# Altium schematic symbol library NetTroll.SchLib: 58 symbols
Pins are listed as number, name and electrical type; pins without a type are passive.

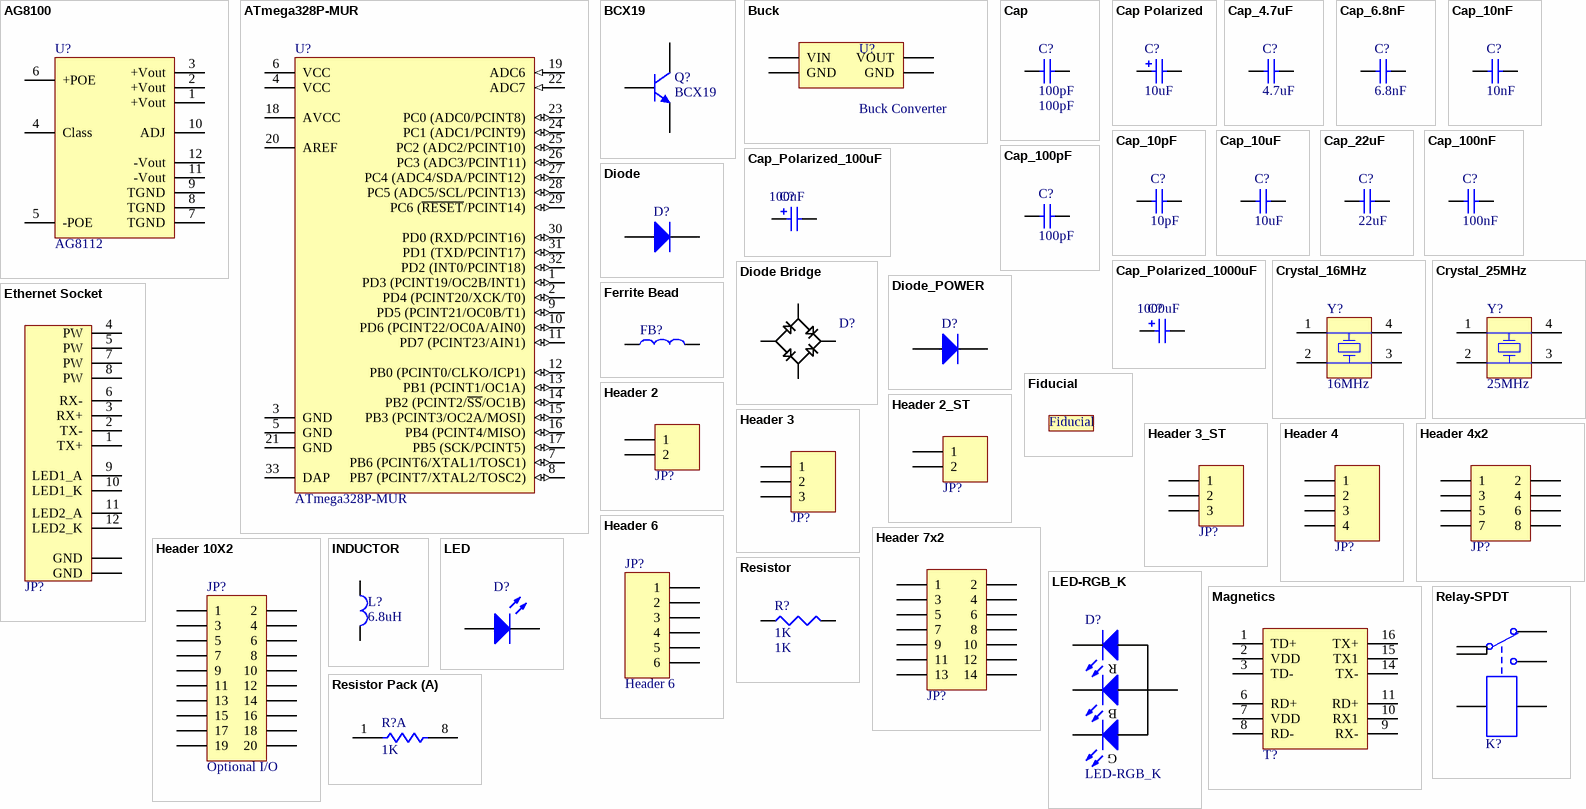
[diagram p0: symbols AG8100 to Resistor Pack]

## AG8100
designator U?, comment AG8112
POE Controller and Buck Converter; Supplier 1: Digi-Key; Supplier 2: Mouser
footprint AG8100
pins: 1 +Vout (power), 2 +Vout (power), 3 +Vout (power), 4 Class, 5 -POE (power), 6 +POE (power), 7 TGND (power) "Thermal GND", 8 TGND (power) "Thermal GND", 9 TGND (power) "Thermal GND", 10 ADJ, 11 -Vout (power), 12 -Vout (power)

## ATmega328P-MUR
designator U?
8-bit AVR Microcontroller, 32KB Flash, 1KB EEPROM, 2KB SRAM, 32-pin MLF, Industrial Grade (-40°C to 85°C); Published: 1-Apr-2010; DatasheetVersion: revA, Jan-2010; PackageVersion: revE, May-2006; PackageReference: 32M1-A; Publisher: Altium Limited; PackageDescription: 32-Pin Micro Lead Frame Package (MLF),  5 x 5 x 1.0 mm Body, Pitch 0.50 mm, 3.10mm Exposed Pad; Supplier 1: Digi-Key; Supplier Part Number 1: ATMEGA328P-MURCT-ND; Supplier 2: Mouser; Supplier Part Number 2: 556-ATMEGA328P-MU; Code_JEDEC: MO-220-VHHD-2; ComponentLink1Description: Manufacturer Link; ComponentLink1URL: http://www.atmel.com/products/avr/default.asp?; ComponentLink2Description: ATmega48A/48PA/88A/88PA/168A/168PA/328/328P Datasheet; ComponentLink2URL: http://www.atmel.com/dyn/resources/prod_documents/8271.pdf; ComponentLink3Description: ATmega48A/48PA/88A/88PA/168A/168PA/328/328P Summary; ComponentLink3URL: http://www.atmel.com/dyn/resources/prod_documents/8271S.pdf; ComponentLink4Description: Atmel.com Home; ComponentLink4URL: http://www.atmel.com
footprint 32M1-A_N (QFN, 32-Leads, Body 5x5mm, Pitch 0.5mm, IPC Medium Density)
footprint 32M1-A_L (QFN, 32-Leads, Body 5x5mm, Pitch 0.5mm, IPC High Density)
footprint 32M1-A_M (QFN, 32-Leads, Body 5x5mm, Pitch 0.5mm, IPC Low Density)
pins: 1 PD3 (PCINT19/OC2B/INT1) (io), 2 PD4 (PCINT20/XCK/T0) (io), 3 GND (power), 4 VCC (power), 5 GND (power), 6 VCC (power), 7 PB6 (PCINT6/XTAL1/TOSC1) (io), 8 PB7 (PCINT7/XTAL2/TOSC2) (io), 9 PD5 (PCINT21/OC0B/T1) (io), 10 PD6 (PCINT22/OC0A/AIN0) (io), 11 PD7 (PCINT23/AIN1) (io), 12 PB0 (PCINT0/CLKO/ICP1) (io), 13 PB1 (PCINT1/OC1A) (io), 14 PB2 (PCINT2/~{SS}/OC1B) (io), 15 PB3 (PCINT3/OC2A/MOSI) (io), 16 PB4 (PCINT4/MISO) (io), 17 PB5 (SCK/PCINT5) (io), 18 AVCC (power), 19 ADC6 (in), 20 AREF, 21 GND (power), 22 ADC7 (in), 23 PC0 (ADC0/PCINT8) (io), 24 PC1 (ADC1/PCINT9) (io), 25 PC2 (ADC2/PCINT10) (io), 26 PC3 (ADC3/PCINT11) (io), 27 PC4 (ADC4/SDA/PCINT12) (io), 28 PC5 (ADC5/SCL/PCINT13) (io), 29 PC6 (~{RESET}/PCINT14) (io), 30 PD0 (RXD/PCINT16) (io), 31 PD1 (TXD/PCINT17) (io), 32 PD2 (INT0/PCINT18) (io), 33 DAP (power)

## BCX19
designator Q?
NPN General Purpose; Published: 8-Jun-2000; LatestRevisionDate: 15-Jan-2003; LatestRevisionNote: PCB Footprint 'BCY-W3/D4.7' replaced; DatasheetVersion: 1997; PackageVersion: Sep-1998; PackageReference: TO-92A; Publisher: Altium Limited; PackageDescription: TO, Flat Index; 3 In-Line, Axial Leads; Body Dia. 4.5mm; Leads 0.51 x 0.48 mm (max); ComponentLink1Description: Manufacturer Link; ComponentLink1URL: http://www.fairchildsemi.com/; ComponentLink2Description: Datasheet; ComponentLink2URL: http://www.fairchildsemi.com/ds/2N%2F2N3904.pdf; Supplier 1: Digi-Key; Supplier 2: Mouser; Supplier Part Number 1: BCX19LT1GOSCT-ND; Supplier Part Number 2: 512-BCX19
simulation model 2N3904 (NPN)
signal-integrity model 2N3904
footprint SOT23-3
pins: 1 E, 2 B, 3 C

## Buck
designator U?, comment Buck Converter
Adjustable Buck Converter Module; LatestRevisionDate: 17-Jul-2002; LatestRevisionNote: Re-released for DXP Platform.; Publisher: Altium Limited
signal-integrity model Connector
footprint Buck_Module
pins: 1 VIN, 2 VOUT, 3 GND, 4 GND

## Cap
designator C?, comment 100pF
Capacitor (Semiconductor SIM Model); Published: 8-Jun-2000; LatestRevisionDate: 29-May-2009; LatestRevisionNote: IPC-7351 Footprint Added.; PackageReference: C1206; Publisher: Altium Limited; PackageDescription: Chip Capacitor; Supplier 1: Digi-Key; Supplier 2: Mouser; Value: 100pF
simulation model CAP (Semiconductor Capacitor)
footprint 1210 (Chip Resistor; Body 3.2 x 1.6 mm (LxW typ))
footprint 0402 (Chip Resistor; Body 1.1 x 0.5 mm (LxW typ))
footprint 0603
footprint 604
pins: 1, 2

## Cap Polarized
designator C?, comment 10uF
Polarized Capacitor (Surface Mount); Published: 8-Jun-2000; LatestRevisionDate: 29-May-2009; LatestRevisionNote: IPC-7351 Footprint Added.; PackageReference: C0805; Publisher: Altium Limited; PackageDescription: Chip Capacitor; Supplier 1: Digi-Key; Supplier 2: Mouser; Value: 10uF
simulation model CAP (Capacitor)
signal-integrity model Cap Pol
footprint PANASONIC_C
footprint PANASONIC_E
footprint PANASONIC_H13
pins: +, -
1 alternate drawing of the same symbol

## Cap_4.7uF
designator C?, comment 4.7uF
Capacitor (Semiconductor SIM Model); Published: 8-Jun-2000; LatestRevisionDate: 29-May-2009; LatestRevisionNote: IPC-7351 Footprint Added.; PackageReference: C1206; Publisher: Altium Limited; PackageDescription: Chip Capacitor; Supplier 1: Digi-Key; Supplier 2: Mouser; Supplier Part Number 1: 1276-2087-1-ND; Supplier Part Number 2: 80-C0603C475M8P; Value: 4.7uF
simulation model CAP (Semiconductor Capacitor)
footprint 1210 (Chip Resistor; Body 3.2 x 1.6 mm (LxW typ))
footprint 0402 (Chip Resistor; Body 1.1 x 0.5 mm (LxW typ))
footprint 0603
footprint 604
pins: 1, 2

## Cap_6.8nF
designator C?, comment 6.8nF
Capacitor (Semiconductor SIM Model); Published: 8-Jun-2000; LatestRevisionDate: 29-May-2009; LatestRevisionNote: IPC-7351 Footprint Added.; PackageReference: C1206; Publisher: Altium Limited; PackageDescription: Chip Capacitor; Supplier 1: Digi-Key; Supplier 2: Mouser; Supplier Part Number 1: 1276-2103-1-ND; Supplier Part Number 2: 77-VJ0603Y682MXQPBC; Value: 6.8nF
simulation model CAP (Semiconductor Capacitor)
footprint 1210 (Chip Resistor; Body 3.2 x 1.6 mm (LxW typ))
footprint 0402 (Chip Resistor; Body 1.1 x 0.5 mm (LxW typ))
footprint 0603
footprint 604
pins: 1, 2

## Cap_10nF
designator C?, comment 10nF
Capacitor (Semiconductor SIM Model); Published: 8-Jun-2000; LatestRevisionDate: 29-May-2009; LatestRevisionNote: IPC-7351 Footprint Added.; PackageReference: C1206; Publisher: Altium Limited; PackageDescription: Chip Capacitor; Supplier 1: Digi-Key; Supplier 2: Mouser; Supplier Part Number 1: 1276-1927-1-ND; Supplier Part Number 2: 77-VJ0603Y103KXAAC; Value: 10nF
simulation model CAP (Semiconductor Capacitor)
footprint 1210 (Chip Resistor; Body 3.2 x 1.6 mm (LxW typ))
footprint 0402 (Chip Resistor; Body 1.1 x 0.5 mm (LxW typ))
footprint 0603
footprint 604
pins: 1, 2

## Cap_10pF
designator C?, comment 10pF
Capacitor (Semiconductor SIM Model); Published: 8-Jun-2000; LatestRevisionDate: 29-May-2009; LatestRevisionNote: IPC-7351 Footprint Added.; PackageReference: C1206; Publisher: Altium Limited; PackageDescription: Chip Capacitor; Supplier 1: Digi-Key; Supplier 2: Mouser; Supplier Part Number 1: 1276-2157-1-ND; Supplier Part Number 2: 80-C0603C100K3G; Value: 10pF
simulation model CAP (Semiconductor Capacitor)
footprint 1210 (Chip Resistor; Body 3.2 x 1.6 mm (LxW typ))
footprint 0402 (Chip Resistor; Body 1.1 x 0.5 mm (LxW typ))
footprint 0603
footprint 604
pins: 1, 2

## Cap_10uF
designator C?, comment 10uF
Capacitor (Semiconductor SIM Model); Value: 10uF - 25V; Published: 8-Jun-2000; LatestRevisionDate: 29-May-2009; LatestRevisionNote: IPC-7351 Footprint Added.; PackageReference: C1206; Publisher: Altium Limited; PackageDescription: Chip Capacitor; Supplier 1: Digi-Key; Supplier 2: Mouser; Supplier Part Number 1: 445-9015-1-ND; Supplier Part Number 2: 810-C1608X5R1E106M
simulation model CAP (Semiconductor Capacitor)
footprint 1210 (Chip Resistor; Body 3.2 x 1.6 mm (LxW typ))
footprint 0402 (Chip Resistor; Body 1.1 x 0.5 mm (LxW typ))
footprint 0603
footprint 604
pins: 1, 2

## Cap_22uF
designator C?, comment 22uF
Capacitor (Semiconductor SIM Model); Published: 8-Jun-2000; LatestRevisionDate: 29-May-2009; LatestRevisionNote: IPC-7351 Footprint Added.; PackageReference: C1206; Publisher: Altium Limited; PackageDescription: Chip Capacitor; Supplier 1: Digi-Key; Supplier 2: Mouser; Supplier Part Number 1: 587-1395-1-ND; Supplier Part Number 2: 963-LMK325F226ZN-T; Value: 22uF
simulation model CAP (Semiconductor Capacitor)
footprint 1210 (Chip Resistor; Body 3.2 x 1.6 mm (LxW typ))
footprint 0402 (Chip Resistor; Body 1.1 x 0.5 mm (LxW typ))
footprint 0603
footprint 604
pins: 1, 2

## Cap_100nF
designator C?, comment 100nF
Capacitor (Semiconductor SIM Model); Published: 8-Jun-2000; LatestRevisionDate: 29-May-2009; LatestRevisionNote: IPC-7351 Footprint Added.; PackageReference: C1206; Publisher: Altium Limited; PackageDescription: Chip Capacitor; Supplier 1: Digi-Key; Supplier 2: Mouser; Supplier Part Number 1: 399-1096-1-ND; Supplier Part Number 2: 80-C0603C104K3R; Value: 100nF
simulation model CAP (Semiconductor Capacitor)
footprint 1210 (Chip Resistor; Body 3.2 x 1.6 mm (LxW typ))
footprint 0402 (Chip Resistor; Body 1.1 x 0.5 mm (LxW typ))
footprint 0603
footprint 604
pins: 1, 2

## Cap_100pF
designator C?, comment 100pF
Capacitor (Semiconductor SIM Model); Published: 8-Jun-2000; LatestRevisionDate: 29-May-2009; LatestRevisionNote: IPC-7351 Footprint Added.; PackageReference: C1206; Publisher: Altium Limited; PackageDescription: Chip Capacitor; Supplier 1: Digi-Key; Supplier 2: Mouser; Supplier Part Number 1: 1276-2163-1-ND; Supplier Part Number 2: 80-C0603C101J3G; Value: 100pF
simulation model CAP (Semiconductor Capacitor)
footprint 1210 (Chip Resistor; Body 3.2 x 1.6 mm (LxW typ))
footprint 0402 (Chip Resistor; Body 1.1 x 0.5 mm (LxW typ))
footprint 0603
footprint 604
pins: 1, 2

## Cap_Polarized_100uF
designator C?, comment 100uF
Polarized Capacitor (Surface Mount); Published: 8-Jun-2000; LatestRevisionDate: 29-May-2009; LatestRevisionNote: IPC-7351 Footprint Added.; PackageReference: C0805; Publisher: Altium Limited; PackageDescription: Chip Capacitor; Supplier 1: Digi-Key; Supplier 2: Mouser; Supplier Part Number 1: PCE4718CT-ND; Supplier Part Number 2: 667-EEE-HAJ101WAR; Value: 100uF
simulation model CAP (Capacitor)
signal-integrity model Cap Pol
footprint PANASONIC_C
footprint PANASONIC_E
footprint PANASONIC_H13
pins: +, -
1 alternate drawing of the same symbol

## Cap_Polarized_1000uF
designator C?, comment 1000uF
Polarized Capacitor (Surface Mount); Published: 8-Jun-2000; LatestRevisionDate: 29-May-2009; LatestRevisionNote: IPC-7351 Footprint Added.; PackageReference: C0805; Publisher: Altium Limited; PackageDescription: Chip Capacitor; Supplier 1: Digi-Key; Supplier 2: Mouser; Supplier Part Number 1: PCE3462CT-ND; Supplier Part Number 2: 140-VE102M1ETR1313; Value: 1000uF
simulation model CAP (Capacitor)
signal-integrity model Cap Pol
footprint PANASONIC_C
footprint PANASONIC_E
footprint PANASONIC_H13
pins: +, -
1 alternate drawing of the same symbol

## Crystal_16MHz
designator Y?, comment 16MHz
Surface Mount Quartz Crystal; Note: PCB layout complies with manufacturer's recommendation.; Published: 17-Jul-2002; DatasheetDocument: 28-Aug-2001; PackageDocument: 28-Aug-2001; PackageReference: 91SMX; Publisher: Altium Limited; ComponentLink1Description: Manufacturer Link; ComponentLink1URL: http://www.cmac.com/mt/; ComponentLink2Description: Datasheet; ComponentLink2URL: http://www.cmac.com/mt/databook/crystals/smd/90_91_smx.pdf; Supplier 1: Digi-Key; Supplier 2: Mouser; Supplier Part Number 2: 732-FA20H-16F12Z-AC3; Value: 16MHz
footprint CRYSTAL-SMD-2.5X2-ABM10
footprint XTAL-CSX750
pins: 1 OSC1, 2 OSC2, 3 OSC2, 4 OSC1

## Crystal_25MHz
designator Y?, comment 25MHz
Surface Mount Quartz Crystal; Note: PCB layout complies with manufacturer's recommendation.; Published: 17-Jul-2002; DatasheetDocument: 28-Aug-2001; PackageDocument: 28-Aug-2001; PackageReference: 91SMX; Publisher: Altium Limited; ComponentLink1Description: Manufacturer Link; ComponentLink1URL: http://www.cmac.com/mt/; ComponentLink2Description: Datasheet; ComponentLink2URL: http://www.cmac.com/mt/databook/crystals/smd/90_91_smx.pdf; Supplier 1: Digi-Key; Supplier 2: Mouser; Supplier Part Number 1: 535-9095-1-ND; Supplier Part Number 2: 815-ABM10-25-E20-T; Value: 25MHz
footprint CRYSTAL-SMD-2.5X2-ABM10
footprint XTAL-CSX750
pins: 1 OSC1, 2 OSC2, 3 OSC2, 4 OSC1

## Diode
designator D?  (value not drawn)
Default Diode; Published: 8-Jun-2000; LatestRevisionDate: 17-Jul-2002; LatestRevisionNote: Re-released for DXP Platform.; PackageVersion: Sep-1996; PackageReference: SMC; Publisher: Altium Limited; PackageDescription: DO-214-AB/SMC; 2 C-Bend Leads; Body 7.9 x 5.9 mm, inc. leads (LxW); Code_JEDEC: DO-214-AB; Supplier 1: Digi-Key; Supplier 2: Mouser; Supplier 3: Farnell; Supplier Part Number 1: MBRX120LF-TPMSCT-ND; Supplier Part Number 2: 833-MBRX120LF-TP; Supplier Part Number 3: 1924371
simulation model DIODE (Diode)
signal-integrity model Diode
footprint SOD-123; pin to pad 1>A 2>K
pins: 1 A, 2 K

## Diode Bridge
designator D?  (value not drawn)
Published: 8-Jun-2000; LatestRevisionDate: 29-May-2009; LatestRevisionNote: IPC-7351 Footprint Added.; PackageReference: J1-0603; Publisher: Altium Limited; PackageDescription: Chip Resistor; Value: -; Supplier 1: Digi-Key; Supplier 2: Mouser; Supplier Part Number 1: HD01DICT-ND; Supplier Part Number 2: 621-HD01-T
footprint MBS
pins: + (power), - (power), AC1 (power), AC2 (power)

## Diode_POWER
designator D?  (value not drawn)
Default Diode; Published: 8-Jun-2000; LatestRevisionDate: 17-Jul-2002; LatestRevisionNote: Re-released for DXP Platform.; PackageVersion: Sep-1996; PackageReference: SMC; Publisher: Altium Limited; PackageDescription: DO-214-AB/SMC; 2 C-Bend Leads; Body 7.9 x 5.9 mm, inc. leads (LxW); Code_JEDEC: DO-214-AB; Supplier 1: Digi-Key; Supplier 2: Mouser; Supplier Part Number 1: 497-6509-1-ND; Supplier Part Number 2: 511-SMAJ58CA-TR
simulation model DIODE (Diode)
signal-integrity model Diode
footprint SMBJ
pins: 1 A, 2 K

## Ethernet Socket
designator JP?, comment RJ45  (value not drawn)
Ethernet Socket RJ45 With Leds; Supplier 1: Digi-Key; Supplier 2: Mouser; Supplier Part Number 1: RJHSE-5384-ND; Supplier Part Number 2: 523-RJHSE-5484
footprint RJHSE-5484
pins: 1 TX+, 2 TX-, 3 RX+, 4 PW, 5 PW, 6 RX-, 7 PW, 8 PW, 9 LED1_A, 10 LED1_K, 11 LED2_A, 12 LED2_K, GND1 GND, GND2 GND

## Ferrite Bead
designator FB?  (value not drawn)
Value: HH-1M1608-121JT; Published: 8-Jun-2000; LatestRevisionDate: 29-May-2009; LatestRevisionNote: IPC-7351 Footprint Added.; PackageReference: J1-0603; Publisher: Altium Limited; PackageDescription: Chip Resistor; Supplier 1: Digi-Key; Supplier 2: Mouser; Supplier Part Number 1: 445-8676-1-ND; Supplier Part Number 2: 810-MMZ1608F030B
simulation model RESISTOR (Resistor)
footprint 0603
pins: 1, 2

## Fiducial
designator FD?  (value not drawn)
Fiducial
footprint FD

## Header 2
designator JP?  (value not drawn)
Header, 2-Pin; LatestRevisionDate: 17-Jul-2002; LatestRevisionNote: Re-released for DXP Platform.; Publisher: Altium Limited; Supplier 1: Digi-Key; Supplier 2: Mouser
footprint 1X02_NO_SILK
footprint SCREWTERMINAL-3.5MM-2
pins: 1, 2

## Header 2_ST
designator JP?, comment Header 2-ST  (value not drawn)
Header, 2-Pin; LatestRevisionDate: 17-Jul-2002; LatestRevisionNote: Re-released for DXP Platform.; Publisher: Altium Limited; Supplier 1: Digi-Key; Supplier 2: Mouser; Supplier Part Number 1: A98036-ND; Supplier Part Number 2: 571-1776275-2
footprint SCREWTERMINAL-3.5MM-2
pins: 1, 2

## Header 3
designator JP?  (value not drawn)
Header, 3-Pin; LatestRevisionDate: 17-Jul-2002; LatestRevisionNote: Re-released for DXP Platform.; Publisher: Altium Limited; Supplier 1: Digi-Key; Supplier 2: Mouser; Supplier Part Number 1: 952-2264-ND; Supplier Part Number 2: 538-42375-1856
footprint 1X3
pins: 1, 2, 3

## Header 3_ST
designator JP?  (value not drawn)
Header, 3-Pin; LatestRevisionDate: 17-Jul-2002; LatestRevisionNote: Re-released for DXP Platform.; Publisher: Altium Limited; Supplier 1: Digi-Key; Supplier 2: Mouser; Supplier Part Number 1: A98037-ND; Supplier Part Number 2: 571-1776275-3
footprint SCREWTERMINAL-3.5MM-3
pins: 1, 2, 3

## Header 4
designator JP?  (value not drawn)
Header, 4-Pin; Supplier 1: Digi-Key; Supplier 2: Mouser; Supplier Part Number 1: 952-2265-ND; Supplier Part Number 2: 855-M20-9730446
footprint 1X04-SMD
footprint 1X4
pins: 1, 2, 3, 4

## Header 4x2
designator JP?  (value not drawn)
Header, 8-Pin; Supplier 1: Digi-Key; Supplier 2: Mouser; Supplier Part Number 1: 952-1788-ND; Supplier Part Number 2: 855-M20-9980446
footprint 2X4
pins: 1, 2, 3, 4, 5, 6, 7, 8

## Header 6
designator JP?
Header, 6-Pin; Supplier 1: Digi-Key; Supplier 2: Mouser; Supplier Part Number 1: 952-2270-ND; Supplier Part Number 2: 538-90120-1086
footprint 1X06_SMD_STRAIGHT_ALT
footprint 1X6
pins: 1, 2, 3, 4, 5, 6

## Header 7x2
designator JP?  (value not drawn)
Header, 14-Pin; Supplier 1: Digi-Key; Supplier 2: Mouser; Supplier Part Number 1: 609-3491-ND; Supplier Part Number 2: 649-67996-414HLF
footprint 2X7
pins: 1, 2, 3, 4, 5, 6, 7, 8, 9, 10, 11, 12, 13, 14

## Header 10X2
designator JP?, comment Optional I/O
Header, 10-Pin, Dual row; LatestRevisionDate: 17-Jul-2002; LatestRevisionNote: Re-released for DXP Platform.; Publisher: Altium Limited; Supplier 1: Digi-Key; Supplier Part Number 1: ED10524-ND
signal-integrity model Connector
footprint 2X10 (Connector; Header; 10x2 Position)
pins: 1, 2, 3, 4, 5, 6, 7, 8, 9, 10, 11, 12, 13, 14, 15, 16, 17, 18, 19, 20

## INDUCTOR
designator L?, comment 6.8uH
INDUCTOR WW 6.8UH 1.1A 1812 SMD; MPN: 744045006; SPN: 732-4064-6-ND; Cost10: 1.68800; Cost100: 1.28250; Supplier: Digikey; Supplier 1: Digi-Key; Supplier 2: Mouser; Supplier Part Number 1: 490-2518-1-ND; Supplier Part Number 2: 81-LQH43CN6R8M03L
footprint 6X6INDUCTOR
footprint MSS1278 (MSS1278 Power Inductor)
footprint 1812 (Chip Capacitor; Body 4.5 x 3.2 mm (LxW typ))
pins: 1, 2

## LED
designator D?  (value not drawn)
Typical RED, GREEN, YELLOW, AMBER GaAs LED; Published: 8-Jun-2000; LatestRevisionDate: 17-Jul-2002; LatestRevisionNote: Re-released for DXP Platform.; PackageVersion: Feb-2002; PackageReference: 3.2X1.6X1.1; Publisher: Altium Limited; PackageDescription: SM LED; 2 Flat Leads; Supplier 1: Digi-Key; Supplier 2: Mouser; Supplier Part Number 1: 475-1409-1-ND; Supplier Part Number 2: 720-LGQ971-KN-1
footprint 3.2X1.6X1.1 (SMT LED; 2 Flat Leads)
simulation model LED2 (Diode)
footprint LED-0603
pins: 1 A, 2 K

## LED-RGB_K
designator D?
RED, GREEN, BLUE LED; Published: 8-Jun-2000; LatestRevisionDate: 17-Jul-2002; LatestRevisionNote: Re-released for DXP Platform.; PackageVersion: Feb-2002; PackageReference: 3.2X1.6X1.1; Publisher: Altium Limited; PackageDescription: SM LED; 2 Flat Leads; Supplier 1: Digi-Key; Supplier 2: Mouser; Supplier Part Number 1: CLVBA-FKA-CAEDH8BBB7A363CT-ND; Supplier Part Number 2: 941-VBAFKACAEDH8B7A3; Supplier Part Number 3: 941-CLV1LFKBC7673673; Supplier 3: Mouser
simulation model LED2 (Diode)
footprint RGB-CLVBAFKA
pins: 1 K-R, 2 A, 3 K-B, 4 K-G
text: R; B; G

## Magnetics
designator T?  (value not drawn)
PoE Magnetic Module; Published: 24-Mar-1999; LatestRevisionDate: 17-Jul-2002; LatestRevisionNote: Re-released for DXP Platform.; PackageReference: MODULE5B; Publisher: Altium Limited; Supplier 1: Mouser; Supplier Part Number 1: 673-H2260FNL
footprint HXXXX
pins: 1 TD+, 2 VDD, 3 TD-, 6 RD+, 7 VDD, 8 RD-, 9 RX-, 10 RX1, 11 RD+, 14 TX-, 15 TX1, 16 TX+

## Relay-SPDT
designator K?  (value not drawn)
Single-Pole Dual-Throw Relay; Published: 24-Mar-1999; LatestRevisionDate: 17-Jul-2002; LatestRevisionNote: Re-released for DXP Platform.; PackageReference: MODULE5B; Publisher: Altium Limited; Supplier 1: Digi-Key; Supplier 2: Mouser; Supplier Part Number 1: Z774-ND; Supplier Part Number 2: 653-G5V-1-DC12
footprint G5V-1
pins: 1, 2, 5, 6, 9, 10

## Resistor
designator R?, comment 1K
Resistor; Published: 8-Jun-2000; LatestRevisionDate: 29-May-2009; LatestRevisionNote: IPC-7351 Footprint Added.; PackageReference: J1-0603; Publisher: Altium Limited; PackageDescription: Chip Resistor; Supplier 1: Digi-Key; Supplier 2: Mouser; Value: 1K
simulation model RESISTOR (Resistor)
footprint 1206
footprint 0402 (Chip Resistor; Body 1.1 x 0.5 mm (LxW typ))
footprint 0603
footprint 604
pins: 1, 2

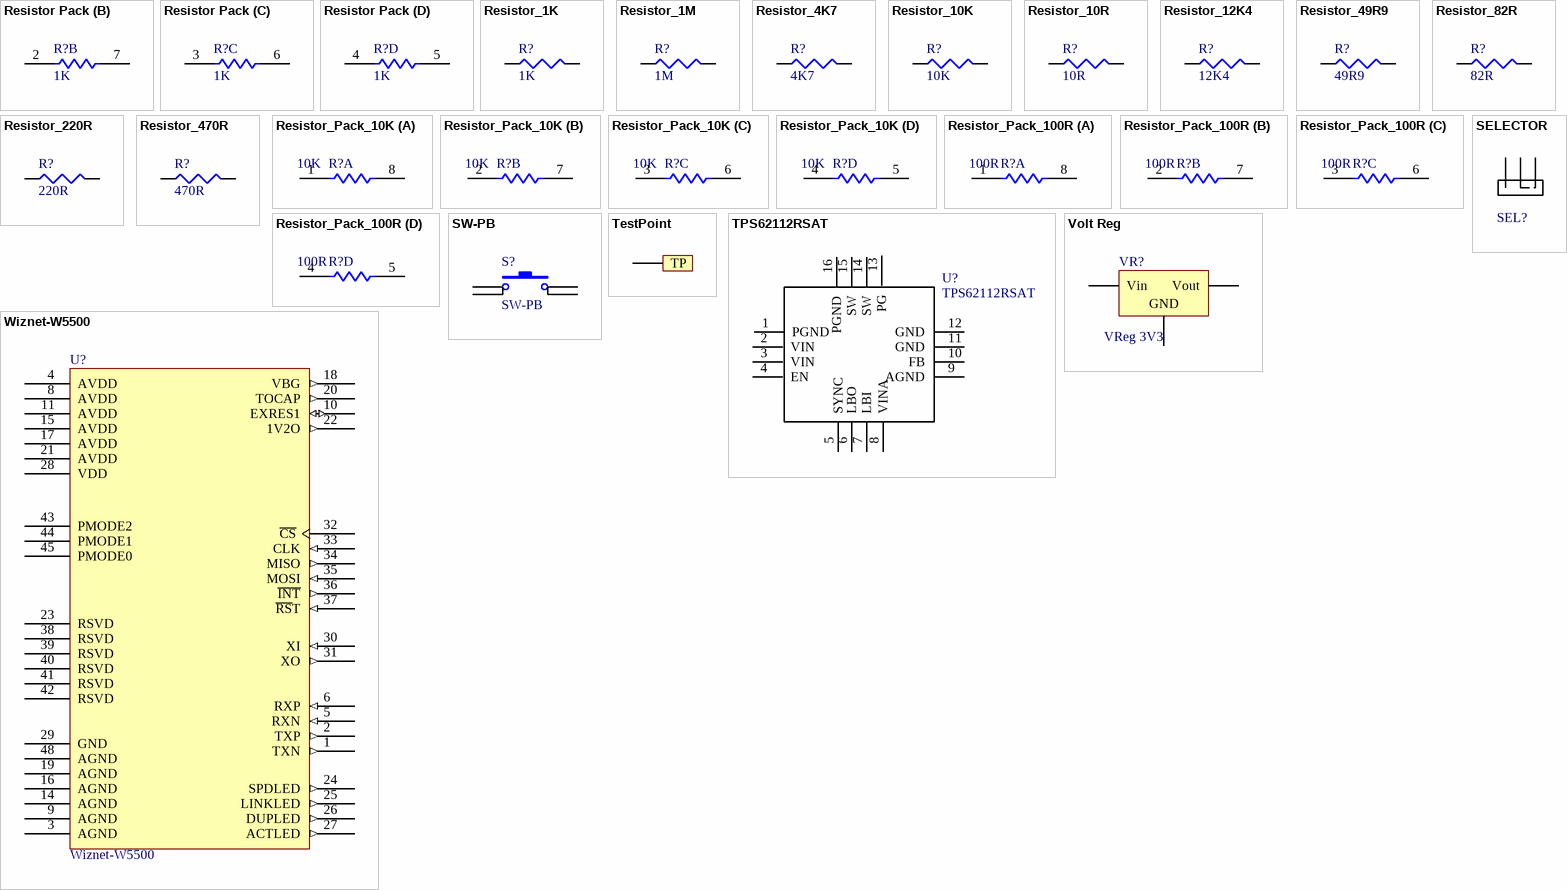
[diagram p1: symbols Resistor Pack to Wiznet-W5500]

## Resistor Pack
designator R?, comment 1K
Isolated Resistor Network - Parts; Sim Note: Enter the Resistance value into parameter field.; Published: 24-Mar-1999; LatestRevisionDate: 29-May-2009; LatestRevisionNote: IPC-7351 Footprint Added.; PackageReference: SOIC16; Publisher: Altium Limited; PackageDescription: 16-Pin Small Outline Integrated Circuit 1.27 mm Pitch; Code_JEDEC: MS-012-AC; Code_IPC: SOIC127P600-16; Supplier 1: Digi-Key; Supplier 2: Mouser; Value: 1K
simulation model RESISTOR (Resistor)
signal-integrity model Res Pack
footprint SO8_M (SOIC, 8-Leads, Body 4.9x3.9mm, Pitch 1.27mm, IPC Low Density)
footprint SO8_S (SOIC, 8-Leads, Body 4.9x3.9mm, Pitch 1.27mm, IPC Low Density)
part A pins: 1, 8
part B pins: 2, 7
part C pins: 3, 6
part D pins: 4, 5

## Resistor_1K
designator R?, comment 1K
Resistor; Published: 8-Jun-2000; LatestRevisionDate: 29-May-2009; LatestRevisionNote: IPC-7351 Footprint Added.; PackageReference: J1-0603; Publisher: Altium Limited; PackageDescription: Chip Resistor; Supplier 1: Digi-Key; Supplier 2: Mouser; Value: 1K
simulation model RESISTOR (Resistor)
footprint 1206
footprint 0402 (Chip Resistor; Body 1.1 x 0.5 mm (LxW typ))
footprint 0603
footprint 604
pins: 1, 2

## Resistor_1M
designator R?, comment 1M
Resistor; Published: 8-Jun-2000; LatestRevisionDate: 29-May-2009; LatestRevisionNote: IPC-7351 Footprint Added.; PackageReference: J1-0603; Publisher: Altium Limited; PackageDescription: Chip Resistor; Supplier 1: Digi-Key; Supplier 2: Mouser; Supplier Part Number 1: 311-1MLMCT-ND; Supplier Part Number 2: 603-AF0603FR-071ML; Value: 1M
simulation model RESISTOR (Resistor)
footprint 1206
footprint 0402 (Chip Resistor; Body 1.1 x 0.5 mm (LxW typ))
footprint 0603
footprint 604
pins: 1, 2

## Resistor_4K7
designator R?, comment 4K7
Resistor; Published: 8-Jun-2000; LatestRevisionDate: 29-May-2009; LatestRevisionNote: IPC-7351 Footprint Added.; PackageReference: J1-0603; Publisher: Altium Limited; PackageDescription: Chip Resistor; Supplier 1: Digi-Key; Supplier 2: Mouser; Supplier Part Number 1: 311-4.7KGRCT-ND; Supplier Part Number 2: 660-RK73H1JTTD4701F; Value: 4K7
simulation model RESISTOR (Resistor)
footprint 1206
footprint 0402 (Chip Resistor; Body 1.1 x 0.5 mm (LxW typ))
footprint 0603
footprint 604
pins: 1, 2

## Resistor_10K
designator R?, comment 10K
Resistor; Published: 8-Jun-2000; LatestRevisionDate: 29-May-2009; LatestRevisionNote: IPC-7351 Footprint Added.; PackageReference: J1-0603; Publisher: Altium Limited; PackageDescription: Chip Resistor; Supplier 1: Digi-Key; Supplier 2: Mouser; Supplier Part Number 1: 311-10KGRCT-ND; Supplier Part Number 2: 603-AF0603FR-0710KL; Value: 10K
simulation model RESISTOR (Resistor)
footprint 1206
footprint 0402 (Chip Resistor; Body 1.1 x 0.5 mm (LxW typ))
footprint 0603
footprint 604
pins: 1, 2

## Resistor_10R
designator R?, comment 10R
Resistor; Published: 8-Jun-2000; LatestRevisionDate: 29-May-2009; LatestRevisionNote: IPC-7351 Footprint Added.; PackageReference: J1-0603; Publisher: Altium Limited; PackageDescription: Chip Resistor; Supplier 1: Digi-Key; Supplier 2: Mouser; Supplier Part Number 1: 1276-5014-1-ND; Supplier Part Number 2: 71-CRCW0603-10-E3; Value: 10R
simulation model RESISTOR (Resistor)
footprint 1206
footprint 0402 (Chip Resistor; Body 1.1 x 0.5 mm (LxW typ))
footprint 0603
footprint 604
pins: 1, 2

## Resistor_12K4
designator R?, comment 12K4
Resistor; Published: 8-Jun-2000; LatestRevisionDate: 29-May-2009; LatestRevisionNote: IPC-7351 Footprint Added.; PackageReference: J1-0603; Publisher: Altium Limited; PackageDescription: Chip Resistor; Supplier 1: Digi-Key; Supplier 2: Mouser; Supplier Part Number 1: 1276-4752-1-ND; Supplier Part Number 2: 71-CRCW0603-12.4K-E3; Value: 12K4
simulation model RESISTOR (Resistor)
footprint 1206
footprint 0402 (Chip Resistor; Body 1.1 x 0.5 mm (LxW typ))
footprint 0603
footprint 604
pins: 1, 2

## Resistor_49R9
designator R?, comment 49R9
Resistor; Published: 8-Jun-2000; LatestRevisionDate: 29-May-2009; LatestRevisionNote: IPC-7351 Footprint Added.; PackageReference: J1-0603; Publisher: Altium Limited; PackageDescription: Chip Resistor; Supplier 1: Digi-Key; Supplier 2: Mouser; Supplier Part Number 1: RHM49.9CFCT-ND; Supplier Part Number 2: 660-RK73H1JTTD49R9F; Value: 49R9
simulation model RESISTOR (Resistor)
footprint 1206
footprint 0402 (Chip Resistor; Body 1.1 x 0.5 mm (LxW typ))
footprint 0603
footprint 604
pins: 1, 2

## Resistor_82R
designator R?, comment 82R
Resistor; Published: 8-Jun-2000; LatestRevisionDate: 29-May-2009; LatestRevisionNote: IPC-7351 Footprint Added.; PackageReference: J1-0603; Publisher: Altium Limited; PackageDescription: Chip Resistor; Supplier 1: Digi-Key; Supplier 2: Mouser; Supplier Part Number 1: 311-82GRCT-ND; Supplier Part Number 2: 660-RK73H1JTTD82R0F; Value: 82R
simulation model RESISTOR (Resistor)
footprint 1206
footprint 0402 (Chip Resistor; Body 1.1 x 0.5 mm (LxW typ))
footprint 0603
footprint 604
pins: 1, 2

## Resistor_220R
designator R?, comment 220R
Resistor; Published: 8-Jun-2000; LatestRevisionDate: 29-May-2009; LatestRevisionNote: IPC-7351 Footprint Added.; PackageReference: J1-0603; Publisher: Altium Limited; PackageDescription: Chip Resistor; Supplier 1: Digi-Key; Supplier 2: Mouser; Supplier Part Number 1: 311-220GRCT-ND; Supplier Part Number 2: 660-RK73H1JTTD2200F; Value: 220R
simulation model RESISTOR (Resistor)
footprint 1206
footprint 0402 (Chip Resistor; Body 1.1 x 0.5 mm (LxW typ))
footprint 0603
footprint 604
pins: 1, 2

## Resistor_470R
designator R?, comment 470R
Resistor; Published: 8-Jun-2000; LatestRevisionDate: 29-May-2009; LatestRevisionNote: IPC-7351 Footprint Added.; PackageReference: J1-0603; Publisher: Altium Limited; PackageDescription: Chip Resistor; Supplier 1: Digi-Key; Supplier 2: Mouser; Supplier Part Number 1: 311-470GRCT-ND; Supplier Part Number 2: 603-AF0603FR-07470RL; Value: 470R
simulation model RESISTOR (Resistor)
footprint 1206
footprint 0402 (Chip Resistor; Body 1.1 x 0.5 mm (LxW typ))
footprint 0603
footprint 604
pins: 1, 2

## Resistor_Pack_10K
designator R?, comment 10K
Isolated Resistor Network - Parts; Sim Note: Enter the Resistance value into parameter field.; Published: 24-Mar-1999; LatestRevisionDate: 29-May-2009; LatestRevisionNote: IPC-7351 Footprint Added.; PackageReference: SOIC16; Publisher: Altium Limited; PackageDescription: 16-Pin Small Outline Integrated Circuit 1.27 mm Pitch; Code_JEDEC: MS-012-AC; Code_IPC: SOIC127P600-16; Supplier 1: Digi-Key; Supplier 2: Mouser; Supplier Part Number 1: 742C083103JPCT-ND; Supplier Part Number 2: 774-742C083103JP; Value: 10K
simulation model RESISTOR (Resistor)
signal-integrity model Res Pack
footprint SO8_M (SOIC, 8-Leads, Body 4.9x3.9mm, Pitch 1.27mm, IPC Low Density)
footprint SO8_S (SOIC, 8-Leads, Body 4.9x3.9mm, Pitch 1.27mm, IPC Low Density)
part A pins: 1, 8
part B pins: 2, 7
part C pins: 3, 6
part D pins: 4, 5

## Resistor_Pack_100R
designator R?, comment 100R
Isolated Resistor Network - Parts; Sim Note: Enter the Resistance value into parameter field.; Published: 24-Mar-1999; LatestRevisionDate: 29-May-2009; LatestRevisionNote: IPC-7351 Footprint Added.; PackageReference: SOIC16; Publisher: Altium Limited; PackageDescription: 16-Pin Small Outline Integrated Circuit 1.27 mm Pitch; Code_JEDEC: MS-012-AC; Code_IPC: SOIC127P600-16; Supplier 1: Digi-Key; Supplier 2: Mouser; Supplier Part Number 1: 742C083101JPCT-ND; Supplier Part Number 2: 774-742C083101JP; Value: 100R
simulation model RESISTOR (Resistor)
signal-integrity model Res Pack
footprint SO8_M (SOIC, 8-Leads, Body 4.9x3.9mm, Pitch 1.27mm, IPC Low Density)
footprint SO8_S (SOIC, 8-Leads, Body 4.9x3.9mm, Pitch 1.27mm, IPC Low Density)
part A pins: 1, 8
part B pins: 2, 7
part C pins: 3, 6
part D pins: 4, 5

## SELECTOR
designator SEL?  (value not drawn)
Solder Selector; Supplier 1: Digi-Key; Supplier 2: Mouser
footprint SJ_3_PASTE2&3
pins: 1, 2, 3

## SW-PB
designator S?
Switch; Published: 24-Mar-1999; LatestRevisionDate: 17-Jul-2002; LatestRevisionNote: Re-released for DXP Platform.; PackageReference: SPST-2; Publisher: Altium Limited; PackageDescription: Switch; 2 Leads; Supplier 1: Digi-Key; Supplier 2: Mouser; Supplier Part Number 1: P12932SCT-ND; Supplier Part Number 2: 667-EVQ-Q2B03W
footprint TACTILE_SWITCH_SMD
pins: 1, 2, 3, 4

## TestPoint
designator TP?, comment Test Point  (value not drawn)
Header, 2-Pin; LatestRevisionDate: 17-Jul-2002; LatestRevisionNote: Re-released for DXP Platform.; Publisher: Altium Limited; Supplier 1: Digi-Key; Supplier 2: Mouser
footprint PAD.03X.05
pins: 1 TP

## TPS62112RSAT
designator U?
IC REG BUCK SYNC 5V 1.5A 16QFN; SPN: 296-19717-6-ND; Cost10: 3.83100; Cost100: 2.00480; MPN: TPS62112RSAT; Supplier: Digikey; Supplier 1: Digi-Key; Supplier 2: Mouser; Supplier Part Number 1: 296-19717-1-ND; Supplier Part Number 2: 595-TPS62112RSAT
footprint 16-QFN
pins: 0 GND hidden to GND, 1 PGND, 2 VIN, 3 VIN, 4 EN, 5 SYNC, 6 LBO, 7 LBI, 8 VINA, 9 AGND, 10 FB, 11 GND, 12 GND, 13 PG, 14 SW, 15 SW, 16 PGND

## Volt Reg
designator VR?, comment VReg 3V3
Voltage Regulator; Part: UA78M33; Published: 24-Mar-1999; LatestRevisionDate: 29-May-2009; LatestRevisionNote: IPC-7351 Footprint Added.; PackageReference: D2PAK; Publisher: Altium Limited; PackageDescription: 3-Pin Transistor Outline Package 2.54 mm Pitch, 15.1 mm Lead Span; Supplier 1: Digi-Key; Supplier 2: Mouser; Supplier Part Number 1: 296-27140-5-ND; Supplier Part Number 2: 595-UA78M33CDCY
footprint SOT223
pins: 1 Vin, 2 GND, 3 Vout

## Wiznet-W5500
designator U?
W5500 Fast SPI Ethernet Controller; Supplier 1: Digi-Key; Supplier Part Number 1: 1278-1021-ND; Supplier 2: Mouser; Supplier Part Number 2: 950-W5500; Code_JEDEC: MO-220-VHHD-2; ComponentLink1Description: Manufacturer Link; ComponentLink1URL: http://www.wiznet.co.kr/Sub_Modules/en/product/Product_Detail.asp?cate1=5&cate2=7&cate3=77&pid=1193
footprint QFN48
pins: 1 TXN (out), 2 TXP (out), 3 AGND (power), 4 AVDD (power), 5 RXN (in), 6 RXP (in), 8 AVDD (power), 9 AGND (power), 10 EXRES1 (io), 11 AVDD (power), 14 AGND (power), 15 AVDD (power), 16 AGND (power), 17 AVDD (power), 18 VBG (out), 19 AGND (power), 20 TOCAP (out), 21 AVDD (power), 22 1V2O (out), 23 RSVD (power), 24 SPDLED (out), 25 LINKLED (out), 26 DUPLED (out), 27 ACTLED (out), 28 VDD (power), 29 GND (power), 30 XI (in), 31 XO (out), 32 ~{CS}, 33 CLK (in), 34 MISO (out), 35 MOSI (in), 36 ~{INT} (out), 37 ~{RS}T (in), 38 RSVD (power), 39 RSVD (power), 40 RSVD (power), 41 RSVD (power), 42 RSVD (power), 43 PMODE2 (power), 44 PMODE1 (power), 45 PMODE0 (power), 48 AGND (power)